# Altium footprint library SnapEDApcb.PcbLib: 1 footprints
Each footprint in its own frame and in the unit in brackets; x right, y up, seen from the top. Pads: shape width x height; smd on the part's side, far side on the other; paste and mask are expansions set on the pad; w line width, h text height; cw(c..) or ccw(c..) is an arc to the next point about the centre after c.
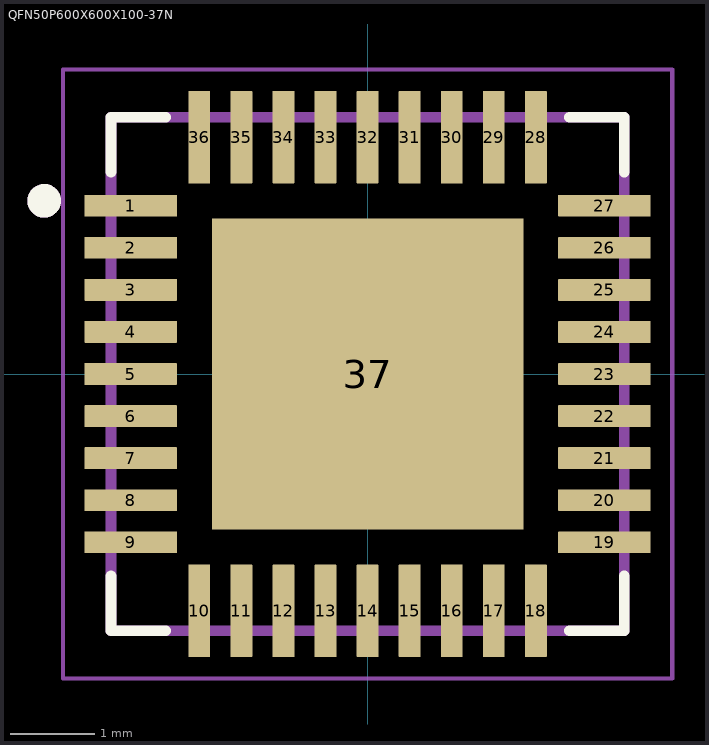
[diagram p0: the footprint, top view; thin cyan lines are the x and y axes]

## QFN50P600X600X100-37N [mm]
pads (37):
  rrect7% 1.1x0.26 smd: 1(-2.815,2) 2(-2.815,1.5) 3(-2.815,1) 4(-2.815,0.5) 5(-2.815,0) 6(-2.815,-0.5) 7(-2.815,-1) 8(-2.815,-1.5) 9(-2.815,-2) 19(2.815,-2) 20(2.815,-1.5) 21(2.815,-1) 22(2.815,-0.5) 23(2.815,0) 24(2.815,0.5) 25(2.815,1) 26(2.815,1.5) 27(2.815,2)
  rrect7% 0.26x1.1 smd: 10(-2,-2.815) 11(-1.5,-2.815) 12(-1,-2.815) 13(-0.5,-2.815) 14(0,-2.815) 15(0.5,-2.815) 16(1,-2.815) 17(1.5,-2.815) 18(2,-2.815) 28(2,2.815) 29(1.5,2.815) 30(1,2.815) 31(0.5,2.815) 32(0,2.815) 33(-0.5,2.815) 34(-1,2.815) 35(-1.5,2.815) 36(-2,2.815)
  rect 3.7x3.7 smd paste-3: 37(0,0)
Top Overlay:
  circle w0.2: c-3.843,2.058 r0.1
  lines w0.127: -3.05,-2.4 -3.05,-3.05 -2.4,-3.05 ; -3.05,2.4 -3.05,3.05 -2.4,3.05 ; 2.4,-3.05 3.05,-3.05 3.05,-2.4 ; 2.4,3.05 3.05,3.05 3.05,2.4
Top Paste:
  region: -0.18,0.18 -1.49,0.18 -1.49,1.49 -0.18,1.49
  region: 1.49,0.18 0.18,0.18 0.18,1.49 1.49,1.49
  region: 1.49,-1.49 0.18,-1.49 0.18,-0.18 1.49,-0.18
  region: -0.18,-1.49 -1.49,-1.49 -1.49,-0.18 -0.18,-0.18
Mechanical 13:
  circle w0.2: c-3.843,2.058 r0.1
  lines w0.127: -3.05,-3.05 3.05,-3.05 3.05,3.05 -3.05,3.05 -3.05,-3.05
Mechanical 15:
  lines w0.05: -3.62,-3.62 3.62,-3.62 3.62,3.62 -3.62,3.62 -3.62,-3.62